# EAGLE library part 612040235221 (library Wire-to-Board (rev18a))
WR-BHD 2.54mm Male Angled Box Header High Temperature, 40 Pins=>Code : Con_WTB_BHD_2.54_Male_THT_RS_612040235221 <http://katalog.we-online.de/media/thumbs2/eican/thb_Con_WTB_BHD_2.54_Male_THT_RS_6120xx235221_pf2.jpg> Details see: http://katalog.we-online.de/en/em/612_0xx_235_221 Created 2014-06-05, Karrer Zheng 2014 (C) Würth Elektronik
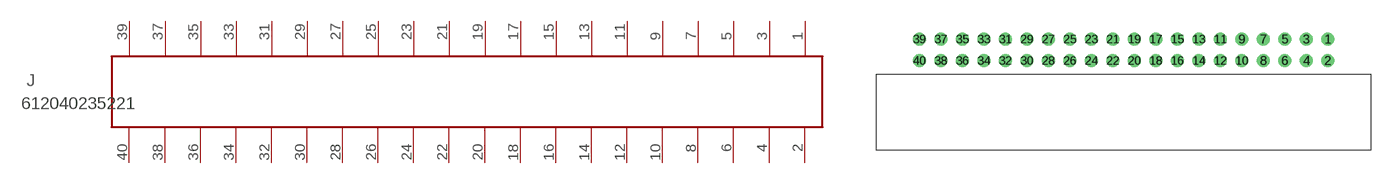
[diagram p192: symbol with the pads of 612040235221; footprint 612040235221]

Designator prefix J

## 612040235221  [612040235221]
1  40  pas
2  39  pas
3  38  pas
4  37  pas
5  36  pas
6  35  pas
7  34  pas
8  33  pas
9  32  pas
10  31  pas
11  30  pas
12  29  pas
13  28  pas
14  27  pas
15  26  pas
16  25  pas
17  24  pas
18  23  pas
19  22  pas
20  21  pas
21  20  pas
22  19  pas
23  18  pas
24  17  pas
25  16  pas
26  15  pas
27  14  pas
28  13  pas
29  12  pas
30  11  pas
31  10  pas
32  9  pas
33  8  pas
34  7  pas
35  6  pas
36  5  pas
37  4  pas
38  3  pas
39  2  pas
40  1  pas

## Footprint 612040235221 (pad centres in mm)
WR-BHD 2.54mm Male Angled Box Header High Temperature, 40 Pins
drill 1.02: 1 24.13,1.27; 2 24.13,-1.27; 3 21.59,1.27; 4 21.59,-1.27; 5 19.05,1.27; 6 19.05,-1.27; 7 16.51,1.27; 8 16.51,-1.27; 9 13.97,1.27; 10 13.97,-1.27; 11 11.43,1.27; 12 11.43,-1.27; 13 8.89,1.27; 14 8.89,-1.27; 15 6.35,1.27; 16 6.35,-1.27; 17 3.81,1.27; 18 3.81,-1.27; 19 1.27,1.27; 20 1.27,-1.27; 21 -1.27,1.27; 22 -1.27,-1.27; 23 -3.81,1.27; 24 -3.81,-1.27; 25 -6.35,1.27; 26 -6.35,-1.27; 27 -8.89,1.27; 28 -8.89,-1.27; 29 -11.43,1.27; 30 -11.43,-1.27; 31 -13.97,1.27; 32 -13.97,-1.27; 33 -16.51,1.27; 34 -16.51,-1.27; 35 -19.05,1.27; 36 -19.05,-1.27; 37 -21.59,1.27; 38 -21.59,-1.27; 39 -24.13,1.27; 40 -24.13,-1.27